# Altium footprint library Keebs.PcbLib: 219 footprints (part 14 of 14)
Each footprint in its own frame and in the unit in brackets; x right, y up, seen from the top. Pads: shape width x height; smd on the part's side, far side on the other; paste and mask are expansions set on the pad; w line width, h text height; cw(c..) or ccw(c..) is an arc to the next point about the centre after c.
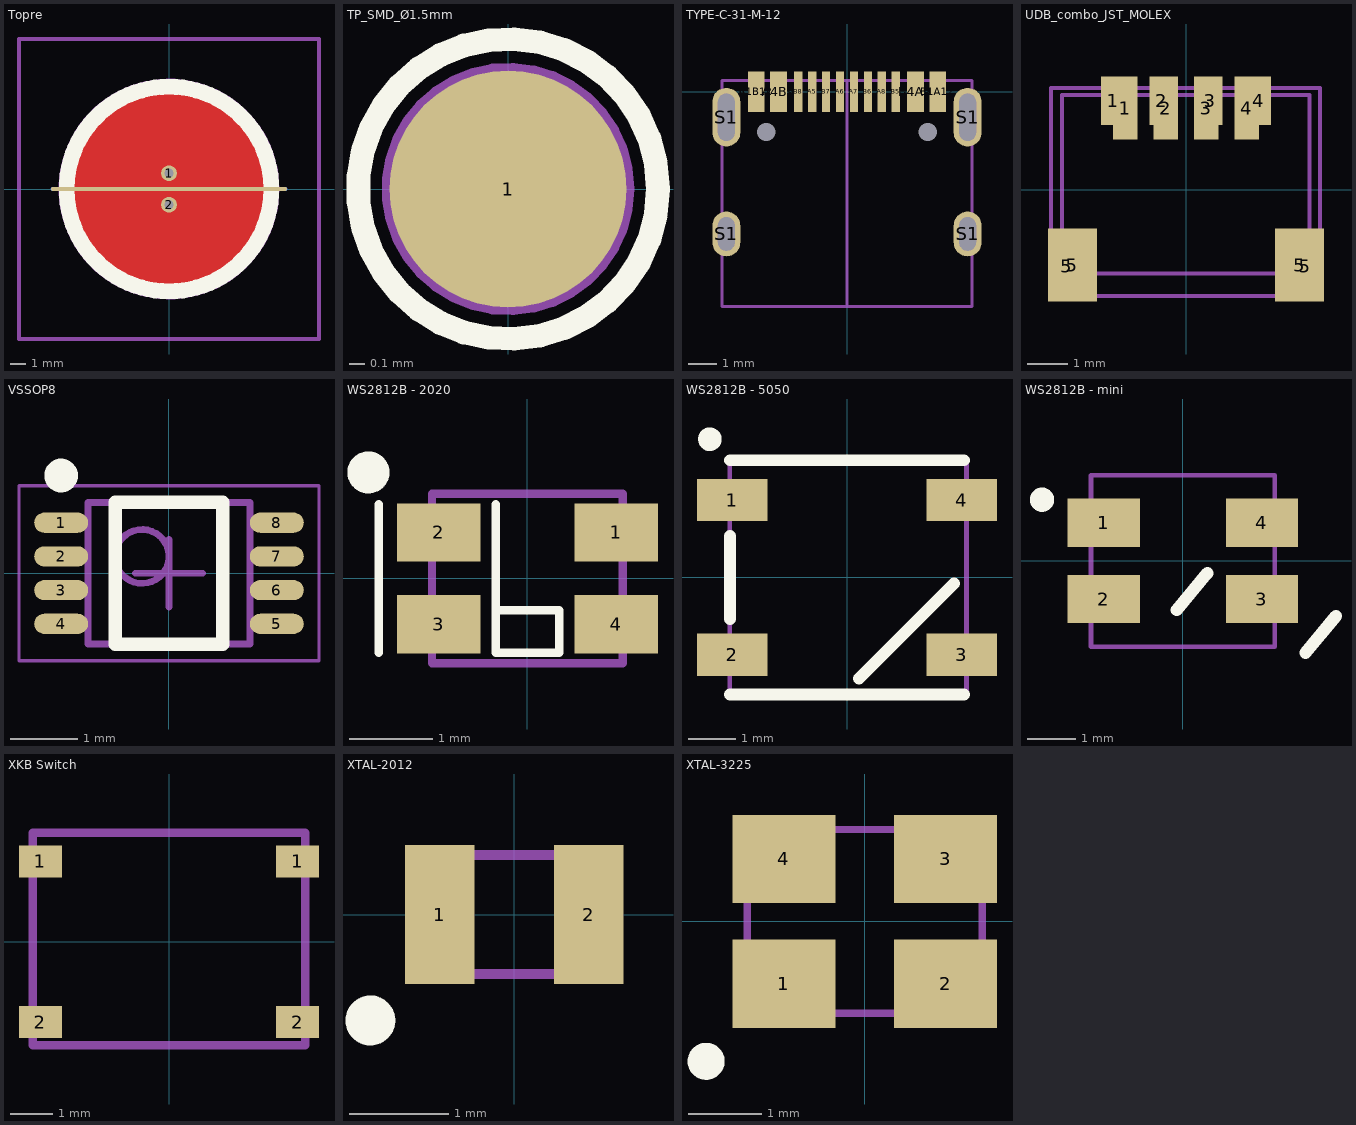
[diagram p13: the footprints below, top view; thin cyan lines are the x and y axes]

## Topre [mm]
pads (5):
  round 1 hole 0.6 mask+0: 1(0,1) 2(0,-1)
  oval 15x0.25 smd paste-1 mask+0: 3(0,0)
  oval 15x0.25 smd far side paste-1 mask+0: 3(0,0)
  round 1 on Mech13: ""(0,0)
Top Layer:
  pour cut-out: 0,-6.884 -0.338,-6.884 -1.011,-6.818 -1.675,-6.686 -2.322,-6.489 -2.947,-6.23 -3.543,-5.912 -4.106,-5.536 -4.628,-5.107 -5.107,-4.628 -5.536,-4.106 -5.912,-3.543 -6.23,-2.947 -6.489,-2.322 -6.686,-1.675 -6.818,-1.011 -6.884,-0.338 -6.884,0 -6.884,0.338 -6.818,1.011 -6.686,1.675 -6.489,2.322 -6.23,2.947 -5.912,3.543 -5.536,4.106 -5.107,4.628 -4.628,5.107 -4.106,5.536 -3.543,5.912 -2.947,6.23 -2.322,6.489 -1.675,6.686 -1.011,6.818 -0.338,6.884 0,6.884 0.338,6.884 1.011,6.818 1.675,6.686 2.322,6.489 2.947,6.23 3.543,5.912 4.106,5.536 4.628,5.107 5.107,4.628 5.536,4.106 5.912,3.543 6.23,2.947 6.489,2.322 6.686,1.675 6.818,1.011 6.884,0.338 6.884,0 6.884,-0.338 6.818,-1.011 6.686,-1.675 6.489,-2.322 6.23,-2.947 5.912,-3.543 5.536,-4.106 5.107,-4.628 4.628,-5.107 4.106,-5.536 3.543,-5.912 2.947,-6.23 2.322,-6.489 1.675,-6.686 1.011,-6.818 0.338,-6.884
  region: -5.259,0.414 -5.237,0.409 -5.193,0.401 -5.148,0.395 -5.103,0.393 -5.08,0.393 5.08,0.393 5.103,0.393 5.148,0.395 5.193,0.401 5.237,0.409 5.259,0.414 5.386,0.44 5.608,0.575 5.772,0.775 5.859,1.02 5.859,1.149 5.859,1.17 5.857,1.212 5.852,1.253 5.845,1.294 5.841,1.314 5.767,1.643 5.546,2.28 5.255,2.888 4.898,3.459 4.479,3.987 4.003,4.464 3.477,4.885 2.907,5.245 2.3,5.538 1.664,5.761 1.007,5.911 0.337,5.987 -0.337,5.987 -1.007,5.911 -1.664,5.761 -2.3,5.538 -2.907,5.245 -3.477,4.885 -4.003,4.464 -4.479,3.987 -4.898,3.459 -5.255,2.888 -5.546,2.28 -5.767,1.643 -5.841,1.314 -5.857,1.241 -5.861,1.092 -5.834,0.944 -5.779,0.805 -5.698,0.679 -5.594,0.572 -5.47,0.488 -5.332,0.429
  region: -5.841,-1.314 -5.767,-1.643 -5.546,-2.28 -5.255,-2.888 -4.898,-3.459 -4.479,-3.987 -4.003,-4.464 -3.477,-4.885 -2.907,-5.245 -2.3,-5.538 -1.664,-5.761 -1.007,-5.911 -0.337,-5.987 0.337,-5.987 1.007,-5.911 1.664,-5.761 2.3,-5.538 2.907,-5.245 3.477,-4.885 4.003,-4.464 4.479,-3.987 4.898,-3.459 5.255,-2.888 5.546,-2.28 5.767,-1.643 5.841,-1.314 5.845,-1.294 5.852,-1.253 5.857,-1.212 5.859,-1.17 5.859,-1.149 5.859,-1.02 5.772,-0.775 5.608,-0.575 5.386,-0.44 5.259,-0.414 5.237,-0.409 5.193,-0.401 5.148,-0.395 5.103,-0.393 5.08,-0.393 -5.08,-0.393 -5.103,-0.393 -5.148,-0.395 -5.193,-0.401 -5.237,-0.409 -5.259,-0.414 -5.332,-0.429 -5.47,-0.488 -5.594,-0.572 -5.698,-0.679 -5.779,-0.805 -5.834,-0.944 -5.861,-1.092 -5.857,-1.241
Bottom Layer:
  pour cut-out: 0,-6.884 -0.338,-6.884 -1.011,-6.818 -1.675,-6.686 -2.322,-6.489 -2.947,-6.23 -3.543,-5.912 -4.106,-5.536 -4.628,-5.107 -5.107,-4.628 -5.536,-4.106 -5.912,-3.543 -6.23,-2.947 -6.489,-2.322 -6.686,-1.675 -6.818,-1.011 -6.884,-0.338 -6.884,0 -6.884,0.338 -6.818,1.011 -6.686,1.675 -6.489,2.322 -6.23,2.947 -5.912,3.543 -5.536,4.106 -5.107,4.628 -4.628,5.107 -4.106,5.536 -3.543,5.912 -2.947,6.23 -2.322,6.489 -1.675,6.686 -1.011,6.818 -0.338,6.884 0,6.884 0.338,6.884 1.011,6.818 1.675,6.686 2.322,6.489 2.947,6.23 3.543,5.912 4.106,5.536 4.628,5.107 5.107,4.628 5.536,4.106 5.912,3.543 6.23,2.947 6.489,2.322 6.686,1.675 6.818,1.011 6.884,0.338 6.884,0 6.884,-0.338 6.818,-1.011 6.686,-1.675 6.489,-2.322 6.23,-2.947 5.912,-3.543 5.536,-4.106 5.107,-4.628 4.628,-5.107 4.106,-5.536 3.543,-5.912 2.947,-6.23 2.322,-6.489 1.675,-6.686 1.011,-6.818 0.338,-6.884
  pour cut-out: -6.51,0 -6.51,-0.319 -6.447,-0.955 -6.323,-1.581 -6.137,-2.192 -5.893,-2.782 -5.592,-3.346 -5.237,-3.877 -4.832,-4.37 -4.38,-4.822 -3.887,-5.227 -3.356,-5.582 -2.792,-5.883 -2.202,-6.127 -1.591,-6.313 -0.965,-6.437 -0.329,-6.5 -0.01,-6.5 0.309,-6.5 0.945,-6.437 1.571,-6.313 2.182,-6.127 2.772,-5.883 3.336,-5.582 3.867,-5.227 4.36,-4.822 4.812,-4.37 5.217,-3.877 5.572,-3.346 5.873,-2.782 6.117,-2.192 6.303,-1.581 6.427,-0.955 6.49,-0.319 6.49,0 6.49,0.319 6.427,0.955 6.303,1.581 6.117,2.192 5.873,2.782 5.572,3.346 5.217,3.877 4.812,4.37 4.36,4.822 3.867,5.227 3.336,5.582 2.772,5.883 2.182,6.127 1.571,6.313 0.945,6.437 0.309,6.5 -0.01,6.5 -0.329,6.5 -0.965,6.437 -1.591,6.313 -2.202,6.127 -2.792,5.883 -3.356,5.582 -3.887,5.227 -4.38,4.822 -4.832,4.37 -5.237,3.877 -5.592,3.346 -5.893,2.782 -6.137,2.192 -6.323,1.581 -6.447,0.955 -6.51,0.319
Top Overlay:
  circle w1: c0,0 r6.5
Mechanical 13:
  circle w0.254: c0,0 r6.884
  lines w0.254: -9.525,-9.525 9.525,-9.525 9.525,9.525 -9.525,9.525 -9.525,-9.525
  text ".Designator" at -7.366,-8.382 h1.5

## TP_SMD_Ø1.5mm [mm]
pads (1):
  round 1.5 smd paste-5: 1(0,0)
Top Overlay:
  circle w0.15: c0,0 r0.95
Mechanical 7:
  circle w0.1: c0,0 r0.95
  circle w0.1: c0,0 r0.75
  text ".Designator" at -0.9,1.175 h0.38

## TYPE-C-31-M-12 [mm]
pads (18):
  rect 0.6x1.45 smd: A1B12(-3.25,0) A4B9(-2.45,0) B1A12(3.25,0) B4A9(2.45,0)
  rect 0.3x1.45 smd: A5(-1.25,0) A6(-0.25,0) A7(0.25,0) A8(1.25,0) B5(1.75,0) B6(0.75,0) B7(-0.75,0) B8(-1.75,0)
  oval 1x1.6 / inner oval 1x1.6 / far side oval 1.3x2 hole 0.6 slot 1.2 at 90 deg: S1(-4.32,-5.095) S1(4.32,-5.095)
  oval 1x2.1 / inner oval 1x2.1 / far side oval 1.3x2.4 hole 0.6 slot 1.7 at 90 deg: S1(-4.32,-0.915) S1(4.32,-0.915)
  round 0 hole 0.65 unplated: ""(-2.89,-1.445) ""(2.89,-1.445)
Mechanical 13:
  lines w0.1: -4.47,-7.695 4.47,-7.695 4.47,0.395 -4.47,0.395 -4.47,-7.695
  text ".Designator" at -3.725,-3.7 h0.7
Mechanical 15:
  lines w0.1: 0,-7.695 0,0.395
  text "connector edge" at -2.95,-7.25 h1
3D body "HRO  TYPE-C-31-M-12.step": height 3.21, standoff -1, extent -4.475,-7.725 4.465,0.175

## UDB_combo_JST_MOLEX [mm]
pads (12):
  rect 0.6x1.2 smd: 1(-1.8,2.2) 2(-0.6,2.2) 3(0.6,2.2) 4(1.8,2.2)
  rect 0.6x1.55 smd: 1(-1.5,2.021) 2(-0.5,2.021) 3(0.5,2.021) 4(1.5,2.021)
  rect 0.85x1 smd: 5(-2.94,-1.887) 5(2.94,-1.887)
  rect 1.2x1.8 smd: 5(-2.8,-1.854) 5(2.8,-1.854)
Mechanical 13:
  lines w0.1: -3.327,-2.057 3.302,-2.057 3.302,2.515 -3.327,2.515 -3.327,-2.057 ; -3.054,-2.616 3.042,-2.616 3.042,2.337 -3.054,2.337 -3.054,-2.616
  text ".Designator" at -2.591,-0.178 h0.7
3D body "SM04B-SRSS-TB.STEP": height 2.96, standoff 0, extent -3.006,-2.616 2.994,2.334

## VSSOP8 [mm] "Dimensions from SN74LVC2G08DCUR"
height 0.9
pads (8):
  oval 0.8x0.3 smd: 1(-1.6,0.75) 2(-1.6,0.25) 3(-1.6,-0.25) 4(-1.6,-0.75) 5(1.6,-0.75) 6(1.6,-0.25) 7(1.6,0.25) 8(1.6,0.75)
Top Overlay:
  circle w0.25: c-1.6,1.45 r0.125
  lines w0.2: -0.8,-1.05 -0.8,1.05 0.8,1.05 0.8,-1.05 -0.8,-1.05
Mechanical 13:
  circle w0.1: c-0.4,0.25 r0.4
  lines w0.1: -1.2,-1.05 -1.2,1.05 1.2,1.05 1.2,-1.05 -1.2,-1.05
  text ".Designator" at -1.143,-0.762 h0.35
Mechanical 15:
  lines w0.05: -2.225,-1.3 -2.225,1.3 2.225,1.3 2.225,-1.3 -2.225,-1.3
  lines w0.1: -0.5,0 0.5,0 ; 0,-0.5 0,0.5
3D body "VSSOP8.step": height 0.9, standoff 0, extent -1.549,-1.05 1.549,1.05

## WS2812B - 2020 [mm]
pads (4):
  rect 1x0.7 smd: 1(1.065,0.55) 2(-1.065,0.55) 3(-1.065,-0.55) 4(1.065,-0.55)
Top Overlay:
  circle w0.254: c-1.905,1.27 r0.125
  lines w0.1: -1.782,-0.891 -1.782,0.887 ; -0.381,0.889 -0.381,-0.889 ; -0.381,-0.889 0.381,-0.889 0.381,-0.381 -0.381,-0.381 -0.381,-0.889
Mechanical 13:
  lines w0.1: -1.143,-1.016 -1.143,1.016 1.143,1.016 1.143,-1.016 -1.143,-1.016
  text ".Designator" at 1.016,0.127 h0.3
3D body "WS2812-2020.STEP": height 0.86, standoff 0, extent -1.1,-1 1.1,1

## WS2812B - 5050 [mm]
pads (4):
  rect 1.5x0.9 smd: 1(-2.45,1.65) 2(-2.45,-1.65) 3(2.45,-1.65) 4(2.45,1.65)
Top Overlay:
  circle w0.254: c-2.925,2.95 r0.125
  lines w0.254: -2.5,-2.5 2.5,-2.5 ; -2.5,-0.889 -2.5,0.889 ; -2.5,2.5 2.5,2.5 ; 0.254,-2.159 2.286,-0.127
Mechanical 13:
  lines w0.1: 2.5,-2.5 -2.5,-2.5 -2.5,2.5 2.5,2.5 ; 2.55,-2.5 2.55,2.5
  text ".Designator" at -2.275,-0.425 h0.6
3D body "WS2812_RGB_LED_updated.stp": height 1.5, standoff -0.2, extent -2.65,-2.45 2.7,2.5

## WS2812B - mini [mm]
pads (4):
  rect 1.5x1 smd: 1(-1.64,0.79) 2(-1.64,-0.79) 3(1.64,-0.79) 4(1.64,0.79)
Top Overlay:
  circle w0.254: c-2.921,1.27 r0.125
  lines w0.254: -0.127,-1.016 0.508,-0.254 ; 2.54,-1.905 3.175,-1.143
Mechanical 13:
  lines w0.1: -1.905,-1.778 1.905,-1.778 1.905,1.778 -1.905,1.778 -1.905,-1.778
  text ".Designator" at -1.651,0.127 h0.6
3D body "SMD WS2812B Mini.step": height 2, standoff 0.05, extent -1.84,-1.74 1.84,1.74

## XKB Switch [mm] "XKB Enterprise TS-1187A-C-D-B"
pads (4):
  rect 1x0.75 smd: 1(-3,1.875) 1(3,1.875) 2(-3,-1.875) 2(3,-1.875)
Mechanical 13:
  lines w0.2: -3.175,-2.413 3.175,-2.413 3.175,2.54 -3.175,2.54 -3.175,-2.413
  text ".Designator" at -1.397,0.762 h0.35
3D body "ts-1187a-a-d-b.stp": height 2, standoff 0, extent -3.25,-2.55 3.25,2.55

## XTAL-2012 [mm]
pads (2):
  rect 0.7x1.4 smd: 1(-0.75,0) 2(0.75,0)
Top Overlay:
  circle w0.254: c-1.448,-1.067 r0.125
Mechanical 13:
  lines w0.1: -1.025,-0.6 -1.025,0.6 1.025,0.6 1.025,-0.6 -1.025,-0.6
  text ".Designator" at -0.813,-0.127 h0.35

## XTAL-3225 [mm]
pads (4):
  rect 1.4x1.2 smd: 1(-1.1,-0.85) 2(1.1,-0.85) 3(1.1,0.85) 4(-1.1,0.85)
Top Overlay:
  circle w0.254: c-2.159,-1.905 r0.125
Mechanical 13:
  lines w0.1: -1.6,-1.25 1.6,-1.25 1.6,1.25 -1.6,1.25 -1.6,-1.25
  text ".Designator" at -1.397,-0.127 h0.35
3D body "3225 SMD Crystal Oscillator.STEP": height 0.65, standoff -0.05, extent -1.6,-1.25 1.6,1.25